# Altium schematic symbol library kmilo17pet-Microchip_Flash.SchLib: 291 symbols (part 15 of 37)
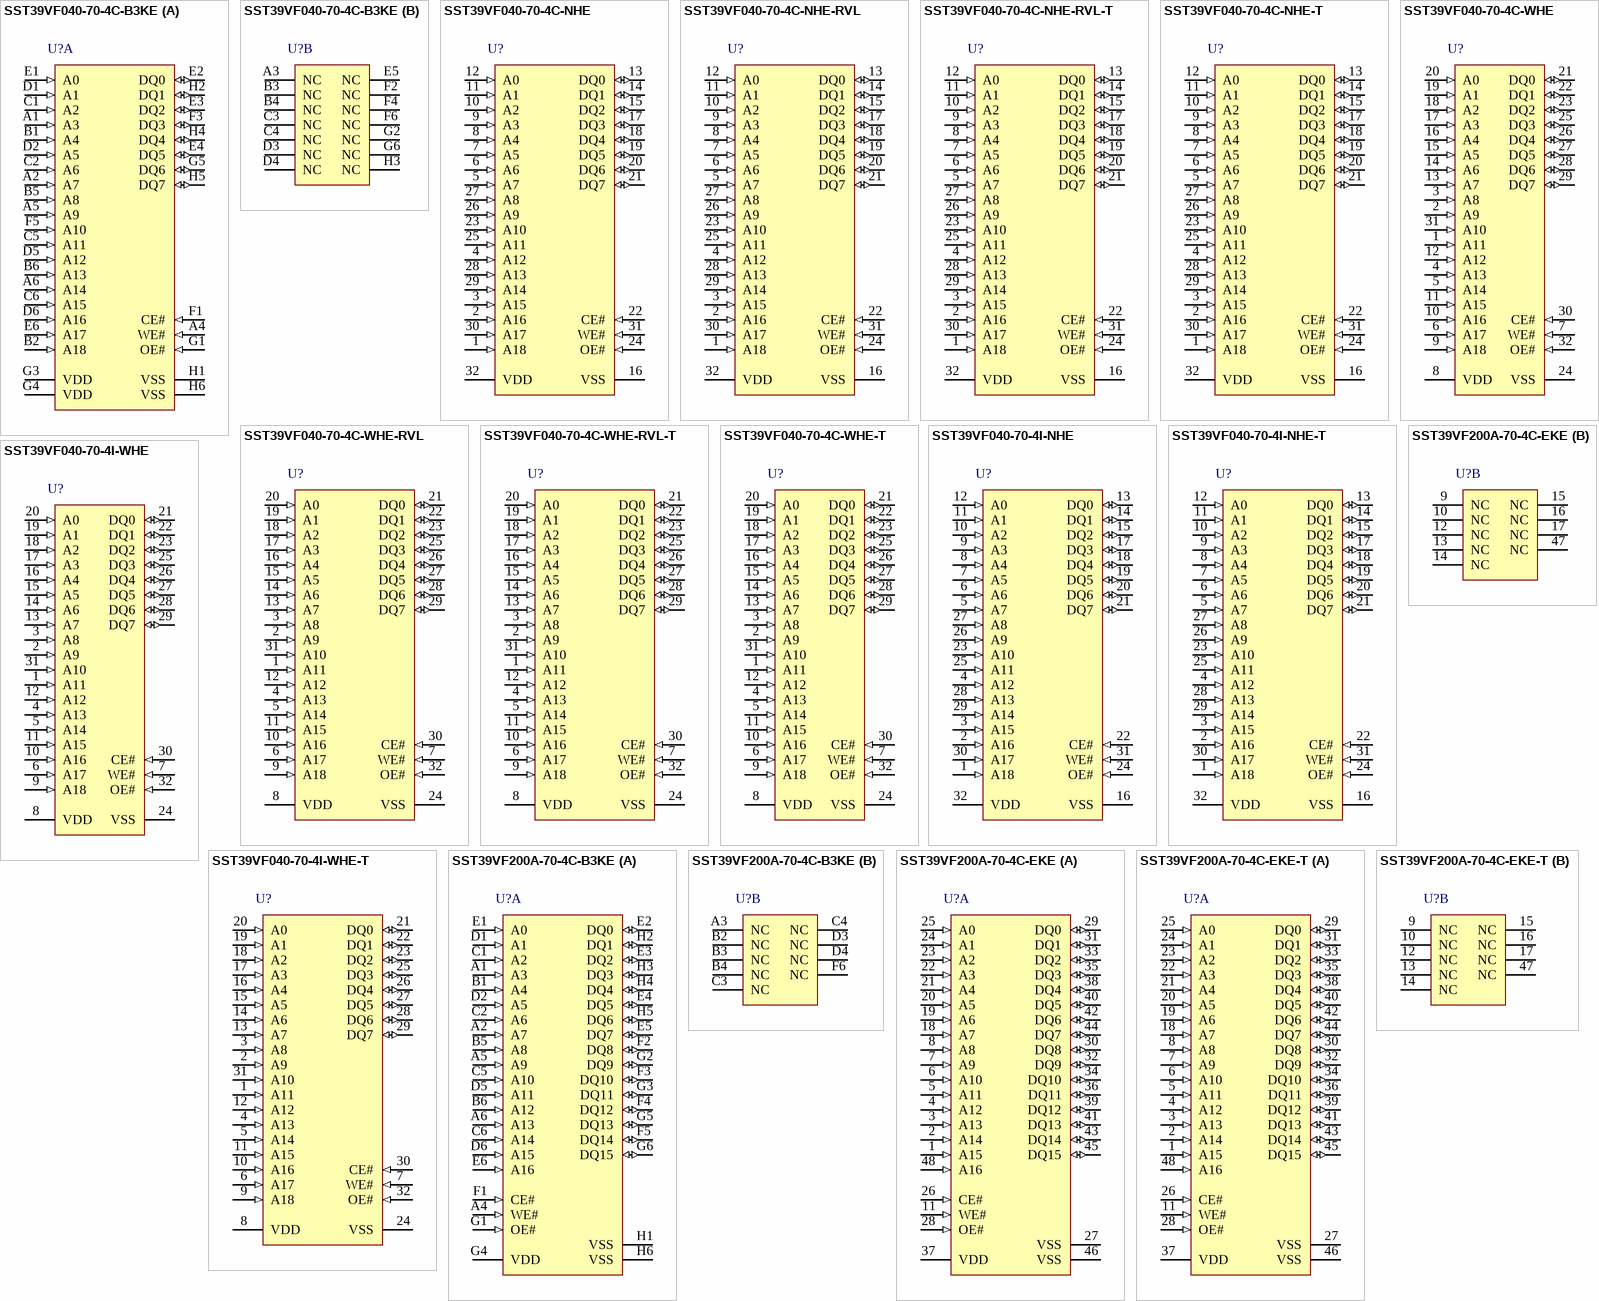
[diagram p29: symbols SST39VF040-70-4C-B3KE to SST39VF200A-70-4C-EKE-T]

## SST39VF040-70-4C-NHE-RVL-T
designator U?
4 Mbit (x8) Multi-Purpose Flash, 2.7 to 3.6 V, Commercial Temperature, 32-Pin PLCC (NH32), Tape and Reel; Manufacturer: Microchip; PartNumber: SST39VF040-70-4C-NHE-RVL-T; DatasheetVersion: Rev. B; PackageVersion: Rev. A, 07/2011; PackageReference: PLCC-NH32; PackageDescription: 32-lead Plastic Lead Chip Carrier, 11.43 x 13.97 mm Body, 1.27 mm Pitch; Family: SST Flash; Packing: Tape and Reel; VCC Range: 2.7 to 3.6 V; Mounting Technology: Surface Mount; Code_JEDEC: MS-016; ComponentLink1Description: Manufacturer URL; ComponentLink1URL: http://www.microchip.com/; ComponentLink2Description: Datasheet; ComponentLink2URL: http://ww1.microchip.com/downloads/en/DeviceDoc/20005023B.pdf; ComponentLink3Description: Package Specification; ComponentLink3URL: http://ww1.microchip.com/downloads/en/DeviceDoc/25022A.pdf
footprint MCHP-PLCC-NH32_N (PLCC, 32-Leads, Body 13.97x11.43mm, Pitch 1.27mm, IPC Medium Density)
footprint MCHP-PLCC-NH32_L (PLCC, 32-Leads, Body 13.97x11.43mm, Pitch 1.27mm, IPC High Density)
footprint MCHP-PLCC-NH32_M (PLCC, 32-Leads, Body 13.97x11.43mm, Pitch 1.27mm, IPC Low Density)
pins: 1 A18 (in) "To provide memory addresses. During Sector-Erase AMS-A12 address lines will select the sector. During Block-Erase AMS-A16 address lines will select the block.", 2 A16 (in) "To provide memory addresses. During Sector-Erase AMS-A12 address lines will select the sector. During Block-Erase AMS-A16 address lines will select the block.", 3 A15 (in) "To provide memory addresses. During Sector-Erase AMS-A12 address lines will select the sector. During Block-Erase AMS-A16 address lines will select the block.", 4 A12 (in) "To provide memory addresses. During Sector-Erase AMS-A12 address lines will select the sector. During Block-Erase AMS-A16 address lines will select the block.", 5 A7 (in) "To provide memory addresses. During Sector-Erase AMS-A12 address lines will select the sector. During Block-Erase AMS-A16 address lines will select the block.", 6 A6 (in) "To provide memory addresses. During Sector-Erase AMS-A12 address lines will select the sector. During Block-Erase AMS-A16 address lines will select the block.", 7 A5 (in) "To provide memory addresses. During Sector-Erase AMS-A12 address lines will select the sector. During Block-Erase AMS-A16 address lines will select the block.", 8 A4 (in) "To provide memory addresses. During Sector-Erase AMS-A12 address lines will select the sector. During Block-Erase AMS-A16 address lines will select the block.", 9 A3 (in) "To provide memory addresses. During Sector-Erase AMS-A12 address lines will select the sector. During Block-Erase AMS-A16 address lines will select the block.", 10 A2 (in) "To provide memory addresses. During Sector-Erase AMS-A12 address lines will select the sector. During Block-Erase AMS-A16 address lines will select the block.", 11 A1 (in) "To provide memory addresses. During Sector-Erase AMS-A12 address lines will select the sector. During Block-Erase AMS-A16 address lines will select the block.", 12 A0 (in) "To provide memory addresses. During Sector-Erase AMS-A12 address lines will select the sector. During Block-Erase AMS-A16 address lines will select the block.", 13 DQ0 (io) "To output data during Read cycles and receive input data during Write cycles. Data is internally latched during a Write cycle. The outputs are in tri-state when OE# or CE# is high.", 14 DQ1 (io) "To output data during Read cycles and receive input data during Write cycles. Data is internally latched during a Write cycle. The outputs are in tri-state when OE# or CE# is high.", 15 DQ2 (io) "To output data during Read cycles and receive input data during Write cycles. Data is internally latched during a Write cycle. The outputs are in tri-state when OE# or CE# is high.", 16 VSS (power) "Ground", 17 DQ3 (io) "To output data during Read cycles and receive input data during Write cycles. Data is internally latched during a Write cycle. The outputs are in tri-state when OE# or CE# is high.", 18 DQ4 (io) "To output data during Read cycles and receive input data during Write cycles. Data is internally latched during a Write cycle. The outputs are in tri-state when OE# or CE# is high.", 19 DQ5 (io) "To output data during Read cycles and receive input data during Write cycles. Data is internally latched during a Write cycle. The outputs are in tri-state when OE# or CE# is high.", 20 DQ6 (io) "To output data during Read cycles and receive input data during Write cycles. Data is internally latched during a Write cycle. The outputs are in tri-state when OE# or CE# is high.", 21 DQ7 (io) "To output data during Read cycles and receive input data during Write cycles. Data is internally latched during a Write cycle. The outputs are in tri-state when OE# or CE# is high.", 22 CE# (in) "To activate the device when CE# is low.", 23 A10 (in) "To provide memory addresses. During Sector-Erase AMS-A12 address lines will select the sector. During Block-Erase AMS-A16 address lines will select the block.", 24 OE# (in) "To gate the data output buffers.", 25 A11 (in) "To provide memory addresses. During Sector-Erase AMS-A12 address lines will select the sector. During Block-Erase AMS-A16 address lines will select the block.", 26 A9 (in) "To provide memory addresses. During Sector-Erase AMS-A12 address lines will select the sector. During Block-Erase AMS-A16 address lines will select the block.", 27 A8 (in) "To provide memory addresses. During Sector-Erase AMS-A12 address lines will select the sector. During Block-Erase AMS-A16 address lines will select the block.", 28 A13 (in) "To provide memory addresses. During Sector-Erase AMS-A12 address lines will select the sector. During Block-Erase AMS-A16 address lines will select the block.", 29 A14 (in) "To provide memory addresses. During Sector-Erase AMS-A12 address lines will select the sector. During Block-Erase AMS-A16 address lines will select the block.", 30 A17 (in) "To provide memory addresses. During Sector-Erase AMS-A12 address lines will select the sector. During Block-Erase AMS-A16 address lines will select the block.", 31 WE# (in) "To control the Write operations.", 32 VDD (power) "To provide power supply voltage: 2.7-3.6V for SST39VF010/020/040"

## SST39VF040-70-4C-NHE-T
designator U?
4 Mbit Multi-Purpose Flash, 2.7 to 3.6 V, 1 kHz, 0 to 70 degC, 32-pin PLCC (NH32), Tape and Reel; Manufacturer: Microchip; PartNumber: SST39VF040-70-4C-NHE-T; DatasheetVersion: Rev. A; PackageVersion: Rev. A; PackageReference: PLCC-NH32; PackageDescription: 32-lead Plastic Lead Chip Carrier, 11.43 x 13.97 mm Body, 1.27 mm Pitch; Supplier 1: Digi-Key; Supplier Part Number 1: SST39VF040-70-4C-NHE-T-ND; Mounting Technology: Surface Mount; Code_JEDEC: MS-016; ComponentLink1Description: Manufacturer URL; ComponentLink1URL: http://www.microchip.com; ComponentLink2Description: Datasheet; ComponentLink2URL: http://ww1.microchip.com/downloads/en/DeviceDoc/25023A.pdf; ComponentLink3Description: Package Specification; ComponentLink3URL: http://ww1.microchip.com/downloads/en/DeviceDoc/25022A.pdf; ComponentLink4Description: Product URL; ComponentLink4URL: http://www.microchip.com/SST39VF040
footprint MCHP-PLCC-NH32_N (PLCC, 32-Leads, Body 13.97x11.43mm, Pitch 1.27mm, IPC Medium Density)
footprint MCHP-PLCC-NH32_L (PLCC, 32-Leads, Body 13.97x11.43mm, Pitch 1.27mm, IPC High Density)
footprint MCHP-PLCC-NH32_M (PLCC, 32-Leads, Body 13.97x11.43mm, Pitch 1.27mm, IPC Low Density)
pins: 1 A18 (in) "To provide memory addresses. During Sector-Erase AMS-A12 address lines will select the sector. During Block-Erase AMS-A16 address lines will select the block.", 2 A16 (in) "To provide memory addresses. During Sector-Erase AMS-A12 address lines will select the sector. During Block-Erase AMS-A16 address lines will select the block.", 3 A15 (in) "To provide memory addresses. During Sector-Erase AMS-A12 address lines will select the sector. During Block-Erase AMS-A16 address lines will select the block.", 4 A12 (in) "To provide memory addresses. During Sector-Erase AMS-A12 address lines will select the sector. During Block-Erase AMS-A16 address lines will select the block.", 5 A7 (in) "To provide memory addresses. During Sector-Erase AMS-A12 address lines will select the sector. During Block-Erase AMS-A16 address lines will select the block.", 6 A6 (in) "To provide memory addresses. During Sector-Erase AMS-A12 address lines will select the sector. During Block-Erase AMS-A16 address lines will select the block.", 7 A5 (in) "To provide memory addresses. During Sector-Erase AMS-A12 address lines will select the sector. During Block-Erase AMS-A16 address lines will select the block.", 8 A4 (in) "To provide memory addresses. During Sector-Erase AMS-A12 address lines will select the sector. During Block-Erase AMS-A16 address lines will select the block.", 9 A3 (in) "To provide memory addresses. During Sector-Erase AMS-A12 address lines will select the sector. During Block-Erase AMS-A16 address lines will select the block.", 10 A2 (in) "To provide memory addresses. During Sector-Erase AMS-A12 address lines will select the sector. During Block-Erase AMS-A16 address lines will select the block.", 11 A1 (in) "To provide memory addresses. During Sector-Erase AMS-A12 address lines will select the sector. During Block-Erase AMS-A16 address lines will select the block.", 12 A0 (in) "To provide memory addresses. During Sector-Erase AMS-A12 address lines will select the sector. During Block-Erase AMS-A16 address lines will select the block.", 13 DQ0 (io) "To output data during Read cycles and receive input data during Write cycles. Data is internally latched during a Write cycle. The outputs are in tri-state when OE# or CE# is high.", 14 DQ1 (io) "To output data during Read cycles and receive input data during Write cycles. Data is internally latched during a Write cycle. The outputs are in tri-state when OE# or CE# is high.", 15 DQ2 (io) "To output data during Read cycles and receive input data during Write cycles. Data is internally latched during a Write cycle. The outputs are in tri-state when OE# or CE# is high.", 16 VSS (power) "Ground", 17 DQ3 (io) "To output data during Read cycles and receive input data during Write cycles. Data is internally latched during a Write cycle. The outputs are in tri-state when OE# or CE# is high.", 18 DQ4 (io) "To output data during Read cycles and receive input data during Write cycles. Data is internally latched during a Write cycle. The outputs are in tri-state when OE# or CE# is high.", 19 DQ5 (io) "To output data during Read cycles and receive input data during Write cycles. Data is internally latched during a Write cycle. The outputs are in tri-state when OE# or CE# is high.", 20 DQ6 (io) "To output data during Read cycles and receive input data during Write cycles. Data is internally latched during a Write cycle. The outputs are in tri-state when OE# or CE# is high.", 21 DQ7 (io) "To output data during Read cycles and receive input data during Write cycles. Data is internally latched during a Write cycle. The outputs are in tri-state when OE# or CE# is high.", 22 CE# (in) "To activate the device when CE# is low.", 23 A10 (in) "To provide memory addresses. During Sector-Erase AMS-A12 address lines will select the sector. During Block-Erase AMS-A16 address lines will select the block.", 24 OE# (in) "To gate the data output buffers.", 25 A11 (in) "To provide memory addresses. During Sector-Erase AMS-A12 address lines will select the sector. During Block-Erase AMS-A16 address lines will select the block.", 26 A9 (in) "To provide memory addresses. During Sector-Erase AMS-A12 address lines will select the sector. During Block-Erase AMS-A16 address lines will select the block.", 27 A8 (in) "To provide memory addresses. During Sector-Erase AMS-A12 address lines will select the sector. During Block-Erase AMS-A16 address lines will select the block.", 28 A13 (in) "To provide memory addresses. During Sector-Erase AMS-A12 address lines will select the sector. During Block-Erase AMS-A16 address lines will select the block.", 29 A14 (in) "To provide memory addresses. During Sector-Erase AMS-A12 address lines will select the sector. During Block-Erase AMS-A16 address lines will select the block.", 30 A17 (in) "To provide memory addresses. During Sector-Erase AMS-A12 address lines will select the sector. During Block-Erase AMS-A16 address lines will select the block.", 31 WE# (in) "To control the Write operations.", 32 VDD (power) "To provide power supply voltage: 2.7-3.6V for SST39VF010/020/040"

## SST39VF040-70-4C-WHE
designator U?
4 Mbit Multi-Purpose Flash, 2.7 to 3.6 V, 1 kHz, 0 to 70 degC, 32-pin TSOP (WH32), Tray; Manufacturer: Microchip; PartNumber: SST39VF040-70-4C-WHE; DatasheetVersion: Rev. A; PackageVersion: Rev. A; PackageReference: TSOP-WH32; PackageDescription: 32-Lead Thin Small Outline Package, 12.4 x 8 mm Body, 0.5 mm Pitch; Supplier 1: Digi-Key; Supplier Part Number 1: SST39VF040-70-4C-WHE-ND; Mounting Technology: Surface Mount; Code_JEDEC: MO-142; ComponentLink1Description: Manufacturer URL; ComponentLink1URL: http://www.microchip.com; ComponentLink2Description: Datasheet; ComponentLink2URL: http://ww1.microchip.com/downloads/en/DeviceDoc/25023A.pdf; ComponentLink3Description: Package Specification; ComponentLink3URL: http://ww1.microchip.com/downloads/en/DeviceDoc/25022A.pdf; ComponentLink4Description: Product URL; ComponentLink4URL: http://www.microchip.com/SST39VF040
footprint MCHP-TSOP-WH32_N (SOP, 32-Leads, Body 12.4x8mm, Pitch 0.5mm, IPC Medium Density)
footprint MCHP-TSOP-WH32_L (SOP, 32-Leads, Body 12.4x8mm, Pitch 0.5mm, IPC High Density)
footprint MCHP-TSOP-WH32_M (SOP, 32-Leads, Body 12.4x8mm, Pitch 0.5mm, IPC Low Density)
pins: 1 A11 (in) "To provide memory addresses. During Sector-Erase AMS-A12 address lines will select the sector.", 2 A9 (in) "To provide memory addresses. During Sector-Erase AMS-A12 address lines will select the sector.", 3 A8 (in) "To provide memory addresses. During Sector-Erase AMS-A12 address lines will select the sector.", 4 A13 (in) "To provide memory addresses. During Sector-Erase AMS-A12 address lines will select the sector.", 5 A14 (in) "To provide memory addresses. During Sector-Erase AMS-A12 address lines will select the sector.", 6 A17 (in) "To provide memory addresses. During Sector-Erase AMS-A12 address lines will select the sector.", 7 WE# (in) "To control the Write operations.", 8 VDD (power) "To provide positive power supply", 9 A18 (in) "To provide memory addresses. During Sector-Erase AMS-A12 address lines will select the sector.", 10 A16 (in) "To provide memory addresses. During Sector-Erase AMS-A12 address lines will select the sector.", 11 A15 (in) "To provide memory addresses. During Sector-Erase AMS-A12 address lines will select the sector.", 12 A12 (in) "To provide memory addresses. During Sector-Erase AMS-A12 address lines will select the sector.", 13 A7 (in) "To provide memory addresses. During Sector-Erase AMS-A12 address lines will select the sector.", 14 A6 (in) "To provide memory addresses. During Sector-Erase AMS-A12 address lines will select the sector.", 15 A5 (in) "To provide memory addresses. During Sector-Erase AMS-A12 address lines will select the sector.", 16 A4 (in) "To provide memory addresses. During Sector-Erase AMS-A12 address lines will select the sector.", 17 A3 (in) "To provide memory addresses. During Sector-Erase AMS-A12 address lines will select the sector.", 18 A2 (in) "To provide memory addresses. During Sector-Erase AMS-A12 address lines will select the sector.", 19 A1 (in) "To provide memory addresses. During Sector-Erase AMS-A12 address lines will select the sector.", 20 A0 (in) "To provide memory addresses. During Sector-Erase AMS-A12 address lines will select the sector.", 21 DQ0 (io) "To output data during Read cycles and receive input data during Write cycles. Data is internally latched during a Write cycle. The outputs are in tri-state when OE# or CE# is high.", 22 DQ1 (io) "To output data during Read cycles and receive input data during Write cycles. Data is internally latched during a Write cycle. The outputs are in tri-state when OE# or CE# is high.", 23 DQ2 (io) "To output data during Read cycles and receive input data during Write cycles. Data is internally latched during a Write cycle. The outputs are in tri-state when OE# or CE# is high.", 24 VSS (power) "Ground", 25 DQ3 (io) "To output data during Read cycles and receive input data during Write cycles. Data is internally latched during a Write cycle. The outputs are in tri-state when OE# or CE# is high.", 26 DQ4 (io) "To output data during Read cycles and receive input data during Write cycles. Data is internally latched during a Write cycle. The outputs are in tri-state when OE# or CE# is high.", 27 DQ5 (io) "To output data during Read cycles and receive input data during Write cycles. Data is internally latched during a Write cycle. The outputs are in tri-state when OE# or CE# is high.", 28 DQ6 (io) "To output data during Read cycles and receive input data during Write cycles. Data is internally latched during a Write cycle. The outputs are in tri-state when OE# or CE# is high.", 29 DQ7 (io) "To output data during Read cycles and receive input data during Write cycles. Data is internally latched during a Write cycle. The outputs are in tri-state when OE# or CE# is high.", 30 CE# (in) "To activate the device when CE# is low.", 31 A10 (in) "To provide memory addresses. During Sector-Erase AMS-A12 address lines will select the sector.", 32 OE# (in) "To gate the data output buffers."

## SST39VF040-70-4C-WHE-RVL
designator U?
4 Mbit (x8) Multi-Purpose Flash, 2.7 to 3.6 V, Commercial Temperature, 32-Pin TSOP (WH32), Tray; Manufacturer: Microchip; PartNumber: SST39VF040-70-4C-WHE-RVL; DatasheetVersion: Rev. B; PackageVersion: Rev. A, 07/2011; PackageReference: TSOP-WH32; PackageDescription: 32-Lead Thin Small Outline Package, 12.4 x 8 mm Body, 0.5 mm Pitch; Family: SST Flash; Packing: Tray; VCC Range: 2.7 to 3.6 V; Mounting Technology: Surface Mount; Code_JEDEC: MO-142; ComponentLink1Description: Manufacturer URL; ComponentLink1URL: http://www.microchip.com/; ComponentLink2Description: Datasheet; ComponentLink2URL: http://ww1.microchip.com/downloads/en/DeviceDoc/20005023B.pdf; ComponentLink3Description: Package Specification; ComponentLink3URL: http://ww1.microchip.com/downloads/en/DeviceDoc/25022A.pdf
footprint MCHP-TSOP-WH32_N (SOP, 32-Leads, Body 12.4x8mm, Pitch 0.5mm, IPC Medium Density)
footprint MCHP-TSOP-WH32_L (SOP, 32-Leads, Body 12.4x8mm, Pitch 0.5mm, IPC High Density)
footprint MCHP-TSOP-WH32_M (SOP, 32-Leads, Body 12.4x8mm, Pitch 0.5mm, IPC Low Density)
pins: 1 A11 (in) "To provide memory addresses. During Sector-Erase AMS-A12 address lines will select the sector. During Block-Erase AMS-A16 address lines will select the block.", 2 A9 (in) "To provide memory addresses. During Sector-Erase AMS-A12 address lines will select the sector. During Block-Erase AMS-A16 address lines will select the block.", 3 A8 (in) "To provide memory addresses. During Sector-Erase AMS-A12 address lines will select the sector. During Block-Erase AMS-A16 address lines will select the block.", 4 A13 (in) "To provide memory addresses. During Sector-Erase AMS-A12 address lines will select the sector. During Block-Erase AMS-A16 address lines will select the block.", 5 A14 (in) "To provide memory addresses. During Sector-Erase AMS-A12 address lines will select the sector. During Block-Erase AMS-A16 address lines will select the block.", 6 A17 (in) "To provide memory addresses. During Sector-Erase AMS-A12 address lines will select the sector. During Block-Erase AMS-A16 address lines will select the block.", 7 WE# (in) "To control the Write operations.", 8 VDD (power) "To provide power supply voltage: 2.7-3.6V for SST39VF010/020/040", 9 A18 (in) "To provide memory addresses. During Sector-Erase AMS-A12 address lines will select the sector. During Block-Erase AMS-A16 address lines will select the block.", 10 A16 (in) "To provide memory addresses. During Sector-Erase AMS-A12 address lines will select the sector. During Block-Erase AMS-A16 address lines will select the block.", 11 A15 (in) "To provide memory addresses. During Sector-Erase AMS-A12 address lines will select the sector. During Block-Erase AMS-A16 address lines will select the block.", 12 A12 (in) "To provide memory addresses. During Sector-Erase AMS-A12 address lines will select the sector. During Block-Erase AMS-A16 address lines will select the block.", 13 A7 (in) "To provide memory addresses. During Sector-Erase AMS-A12 address lines will select the sector. During Block-Erase AMS-A16 address lines will select the block.", 14 A6 (in) "To provide memory addresses. During Sector-Erase AMS-A12 address lines will select the sector. During Block-Erase AMS-A16 address lines will select the block.", 15 A5 (in) "To provide memory addresses. During Sector-Erase AMS-A12 address lines will select the sector. During Block-Erase AMS-A16 address lines will select the block.", 16 A4 (in) "To provide memory addresses. During Sector-Erase AMS-A12 address lines will select the sector. During Block-Erase AMS-A16 address lines will select the block.", 17 A3 (in) "To provide memory addresses. During Sector-Erase AMS-A12 address lines will select the sector. During Block-Erase AMS-A16 address lines will select the block.", 18 A2 (in) "To provide memory addresses. During Sector-Erase AMS-A12 address lines will select the sector. During Block-Erase AMS-A16 address lines will select the block.", 19 A1 (in) "To provide memory addresses. During Sector-Erase AMS-A12 address lines will select the sector. During Block-Erase AMS-A16 address lines will select the block.", 20 A0 (in) "To provide memory addresses. During Sector-Erase AMS-A12 address lines will select the sector. During Block-Erase AMS-A16 address lines will select the block.", 21 DQ0 (io) "To output data during Read cycles and receive input data during Write cycles. Data is internally latched during a Write cycle. The outputs are in tri-state when OE# or CE# is high.", 22 DQ1 (io) "To output data during Read cycles and receive input data during Write cycles. Data is internally latched during a Write cycle. The outputs are in tri-state when OE# or CE# is high.", 23 DQ2 (io) "To output data during Read cycles and receive input data during Write cycles. Data is internally latched during a Write cycle. The outputs are in tri-state when OE# or CE# is high.", 24 VSS (power) "Ground", 25 DQ3 (io) "To output data during Read cycles and receive input data during Write cycles. Data is internally latched during a Write cycle. The outputs are in tri-state when OE# or CE# is high.", 26 DQ4 (io) "To output data during Read cycles and receive input data during Write cycles. Data is internally latched during a Write cycle. The outputs are in tri-state when OE# or CE# is high.", 27 DQ5 (io) "To output data during Read cycles and receive input data during Write cycles. Data is internally latched during a Write cycle. The outputs are in tri-state when OE# or CE# is high.", 28 DQ6 (io) "To output data during Read cycles and receive input data during Write cycles. Data is internally latched during a Write cycle. The outputs are in tri-state when OE# or CE# is high.", 29 DQ7 (io) "To output data during Read cycles and receive input data during Write cycles. Data is internally latched during a Write cycle. The outputs are in tri-state when OE# or CE# is high.", 30 CE# (in) "To activate the device when CE# is low.", 31 A10 (in) "To provide memory addresses. During Sector-Erase AMS-A12 address lines will select the sector. During Block-Erase AMS-A16 address lines will select the block.", 32 OE# (in) "To gate the data output buffers."

## SST39VF040-70-4C-WHE-RVL-T
designator U?
4 Mbit (x8) Multi-Purpose Flash, 2.7 to 3.6 V, Commercial Temperature, 32-Pin TSOP (WH32), Tape and Reel; Manufacturer: Microchip; PartNumber: SST39VF040-70-4C-WHE-RVL-T; DatasheetVersion: Rev. B; PackageVersion: Rev. A, 07/2011; PackageReference: TSOP-WH32; PackageDescription: 32-Lead Thin Small Outline Package, 12.4 x 8 mm Body, 0.5 mm Pitch; Family: SST Flash; Packing: Tape and Reel; VCC Range: 2.7 to 3.6 V; Mounting Technology: Surface Mount; Code_JEDEC: MO-142; ComponentLink1Description: Manufacturer URL; ComponentLink1URL: http://www.microchip.com/; ComponentLink2Description: Datasheet; ComponentLink2URL: http://ww1.microchip.com/downloads/en/DeviceDoc/20005023B.pdf; ComponentLink3Description: Package Specification; ComponentLink3URL: http://ww1.microchip.com/downloads/en/DeviceDoc/25022A.pdf
footprint MCHP-TSOP-WH32_N (SOP, 32-Leads, Body 12.4x8mm, Pitch 0.5mm, IPC Medium Density)
footprint MCHP-TSOP-WH32_L (SOP, 32-Leads, Body 12.4x8mm, Pitch 0.5mm, IPC High Density)
footprint MCHP-TSOP-WH32_M (SOP, 32-Leads, Body 12.4x8mm, Pitch 0.5mm, IPC Low Density)
pins: 1 A11 (in) "To provide memory addresses. During Sector-Erase AMS-A12 address lines will select the sector. During Block-Erase AMS-A16 address lines will select the block.", 2 A9 (in) "To provide memory addresses. During Sector-Erase AMS-A12 address lines will select the sector. During Block-Erase AMS-A16 address lines will select the block.", 3 A8 (in) "To provide memory addresses. During Sector-Erase AMS-A12 address lines will select the sector. During Block-Erase AMS-A16 address lines will select the block.", 4 A13 (in) "To provide memory addresses. During Sector-Erase AMS-A12 address lines will select the sector. During Block-Erase AMS-A16 address lines will select the block.", 5 A14 (in) "To provide memory addresses. During Sector-Erase AMS-A12 address lines will select the sector. During Block-Erase AMS-A16 address lines will select the block.", 6 A17 (in) "To provide memory addresses. During Sector-Erase AMS-A12 address lines will select the sector. During Block-Erase AMS-A16 address lines will select the block.", 7 WE# (in) "To control the Write operations.", 8 VDD (power) "To provide power supply voltage: 2.7-3.6V for SST39VF010/020/040", 9 A18 (in) "To provide memory addresses. During Sector-Erase AMS-A12 address lines will select the sector. During Block-Erase AMS-A16 address lines will select the block.", 10 A16 (in) "To provide memory addresses. During Sector-Erase AMS-A12 address lines will select the sector. During Block-Erase AMS-A16 address lines will select the block.", 11 A15 (in) "To provide memory addresses. During Sector-Erase AMS-A12 address lines will select the sector. During Block-Erase AMS-A16 address lines will select the block.", 12 A12 (in) "To provide memory addresses. During Sector-Erase AMS-A12 address lines will select the sector. During Block-Erase AMS-A16 address lines will select the block.", 13 A7 (in) "To provide memory addresses. During Sector-Erase AMS-A12 address lines will select the sector. During Block-Erase AMS-A16 address lines will select the block.", 14 A6 (in) "To provide memory addresses. During Sector-Erase AMS-A12 address lines will select the sector. During Block-Erase AMS-A16 address lines will select the block.", 15 A5 (in) "To provide memory addresses. During Sector-Erase AMS-A12 address lines will select the sector. During Block-Erase AMS-A16 address lines will select the block.", 16 A4 (in) "To provide memory addresses. During Sector-Erase AMS-A12 address lines will select the sector. During Block-Erase AMS-A16 address lines will select the block.", 17 A3 (in) "To provide memory addresses. During Sector-Erase AMS-A12 address lines will select the sector. During Block-Erase AMS-A16 address lines will select the block.", 18 A2 (in) "To provide memory addresses. During Sector-Erase AMS-A12 address lines will select the sector. During Block-Erase AMS-A16 address lines will select the block.", 19 A1 (in) "To provide memory addresses. During Sector-Erase AMS-A12 address lines will select the sector. During Block-Erase AMS-A16 address lines will select the block.", 20 A0 (in) "To provide memory addresses. During Sector-Erase AMS-A12 address lines will select the sector. During Block-Erase AMS-A16 address lines will select the block.", 21 DQ0 (io) "To output data during Read cycles and receive input data during Write cycles. Data is internally latched during a Write cycle. The outputs are in tri-state when OE# or CE# is high.", 22 DQ1 (io) "To output data during Read cycles and receive input data during Write cycles. Data is internally latched during a Write cycle. The outputs are in tri-state when OE# or CE# is high.", 23 DQ2 (io) "To output data during Read cycles and receive input data during Write cycles. Data is internally latched during a Write cycle. The outputs are in tri-state when OE# or CE# is high.", 24 VSS (power) "Ground", 25 DQ3 (io) "To output data during Read cycles and receive input data during Write cycles. Data is internally latched during a Write cycle. The outputs are in tri-state when OE# or CE# is high.", 26 DQ4 (io) "To output data during Read cycles and receive input data during Write cycles. Data is internally latched during a Write cycle. The outputs are in tri-state when OE# or CE# is high.", 27 DQ5 (io) "To output data during Read cycles and receive input data during Write cycles. Data is internally latched during a Write cycle. The outputs are in tri-state when OE# or CE# is high.", 28 DQ6 (io) "To output data during Read cycles and receive input data during Write cycles. Data is internally latched during a Write cycle. The outputs are in tri-state when OE# or CE# is high.", 29 DQ7 (io) "To output data during Read cycles and receive input data during Write cycles. Data is internally latched during a Write cycle. The outputs are in tri-state when OE# or CE# is high.", 30 CE# (in) "To activate the device when CE# is low.", 31 A10 (in) "To provide memory addresses. During Sector-Erase AMS-A12 address lines will select the sector. During Block-Erase AMS-A16 address lines will select the block.", 32 OE# (in) "To gate the data output buffers."

## SST39VF040-70-4C-WHE-T
designator U?
4 Mbit Multi-Purpose Flash, 2.7 to 3.6 V, 1 kHz, 0 to 70 degC, 32-pin TSOP (WH32), Tape and Reel; Manufacturer: Microchip; PartNumber: SST39VF040-70-4C-WHE-T; DatasheetVersion: Rev. A; PackageVersion: Rev. A; PackageReference: TSOP-WH32; PackageDescription: 32-Lead Thin Small Outline Package, 12.4 x 8 mm Body, 0.5 mm Pitch; Supplier 1: Digi-Key; Supplier Part Number 1: SST39VF040-70-4C-WHE-T-ND; Mounting Technology: Surface Mount; Code_JEDEC: MO-142; ComponentLink1Description: Manufacturer URL; ComponentLink1URL: http://www.microchip.com; ComponentLink2Description: Datasheet; ComponentLink2URL: http://ww1.microchip.com/downloads/en/DeviceDoc/25023A.pdf; ComponentLink3Description: Package Specification; ComponentLink3URL: http://ww1.microchip.com/downloads/en/DeviceDoc/25022A.pdf; ComponentLink4Description: Product URL; ComponentLink4URL: http://www.microchip.com/SST39VF040
footprint MCHP-TSOP-WH32_N (SOP, 32-Leads, Body 12.4x8mm, Pitch 0.5mm, IPC Medium Density)
footprint MCHP-TSOP-WH32_L (SOP, 32-Leads, Body 12.4x8mm, Pitch 0.5mm, IPC High Density)
footprint MCHP-TSOP-WH32_M (SOP, 32-Leads, Body 12.4x8mm, Pitch 0.5mm, IPC Low Density)
pins: 1 A11 (in) "To provide memory addresses. During Sector-Erase AMS-A12 address lines will select the sector.", 2 A9 (in) "To provide memory addresses. During Sector-Erase AMS-A12 address lines will select the sector.", 3 A8 (in) "To provide memory addresses. During Sector-Erase AMS-A12 address lines will select the sector.", 4 A13 (in) "To provide memory addresses. During Sector-Erase AMS-A12 address lines will select the sector.", 5 A14 (in) "To provide memory addresses. During Sector-Erase AMS-A12 address lines will select the sector.", 6 A17 (in) "To provide memory addresses. During Sector-Erase AMS-A12 address lines will select the sector.", 7 WE# (in) "To control the Write operations.", 8 VDD (power) "To provide positive power supply", 9 A18 (in) "To provide memory addresses. During Sector-Erase AMS-A12 address lines will select the sector.", 10 A16 (in) "To provide memory addresses. During Sector-Erase AMS-A12 address lines will select the sector.", 11 A15 (in) "To provide memory addresses. During Sector-Erase AMS-A12 address lines will select the sector.", 12 A12 (in) "To provide memory addresses. During Sector-Erase AMS-A12 address lines will select the sector.", 13 A7 (in) "To provide memory addresses. During Sector-Erase AMS-A12 address lines will select the sector.", 14 A6 (in) "To provide memory addresses. During Sector-Erase AMS-A12 address lines will select the sector.", 15 A5 (in) "To provide memory addresses. During Sector-Erase AMS-A12 address lines will select the sector.", 16 A4 (in) "To provide memory addresses. During Sector-Erase AMS-A12 address lines will select the sector.", 17 A3 (in) "To provide memory addresses. During Sector-Erase AMS-A12 address lines will select the sector.", 18 A2 (in) "To provide memory addresses. During Sector-Erase AMS-A12 address lines will select the sector.", 19 A1 (in) "To provide memory addresses. During Sector-Erase AMS-A12 address lines will select the sector.", 20 A0 (in) "To provide memory addresses. During Sector-Erase AMS-A12 address lines will select the sector.", 21 DQ0 (io) "To output data during Read cycles and receive input data during Write cycles. Data is internally latched during a Write cycle. The outputs are in tri-state when OE# or CE# is high.", 22 DQ1 (io) "To output data during Read cycles and receive input data during Write cycles. Data is internally latched during a Write cycle. The outputs are in tri-state when OE# or CE# is high.", 23 DQ2 (io) "To output data during Read cycles and receive input data during Write cycles. Data is internally latched during a Write cycle. The outputs are in tri-state when OE# or CE# is high.", 24 VSS (power) "Ground", 25 DQ3 (io) "To output data during Read cycles and receive input data during Write cycles. Data is internally latched during a Write cycle. The outputs are in tri-state when OE# or CE# is high.", 26 DQ4 (io) "To output data during Read cycles and receive input data during Write cycles. Data is internally latched during a Write cycle. The outputs are in tri-state when OE# or CE# is high.", 27 DQ5 (io) "To output data during Read cycles and receive input data during Write cycles. Data is internally latched during a Write cycle. The outputs are in tri-state when OE# or CE# is high.", 28 DQ6 (io) "To output data during Read cycles and receive input data during Write cycles. Data is internally latched during a Write cycle. The outputs are in tri-state when OE# or CE# is high.", 29 DQ7 (io) "To output data during Read cycles and receive input data during Write cycles. Data is internally latched during a Write cycle. The outputs are in tri-state when OE# or CE# is high.", 30 CE# (in) "To activate the device when CE# is low.", 31 A10 (in) "To provide memory addresses. During Sector-Erase AMS-A12 address lines will select the sector.", 32 OE# (in) "To gate the data output buffers."

## SST39VF040-70-4I-NHE
designator U?
4 Mbit Multi-Purpose Flash, 2.7 to 3.6 V, 1 kHz, -40 to 85 degC, 32-pin PLCC (NH32), Tube; Manufacturer: Microchip; PartNumber: SST39VF040-70-4I-NHE; DatasheetVersion: Rev. A; PackageVersion: Rev. A; PackageReference: PLCC-NH32; PackageDescription: 32-lead Plastic Lead Chip Carrier, 11.43 x 13.97 mm Body, 1.27 mm Pitch; Supplier 1: Digi-Key; Supplier Part Number 1: SST39VF040-70-4I-NHE-ND; Mounting Technology: Surface Mount; Code_JEDEC: MS-016; ComponentLink1Description: Manufacturer URL; ComponentLink1URL: http://www.microchip.com; ComponentLink2Description: Datasheet; ComponentLink2URL: http://ww1.microchip.com/downloads/en/DeviceDoc/25023A.pdf; ComponentLink3Description: Package Specification; ComponentLink3URL: http://ww1.microchip.com/downloads/en/DeviceDoc/25022A.pdf; ComponentLink4Description: Product URL; ComponentLink4URL: http://www.microchip.com/SST39VF040
footprint MCHP-PLCC-NH32_N (PLCC, 32-Leads, Body 13.97x11.43mm, Pitch 1.27mm, IPC Medium Density)
footprint MCHP-PLCC-NH32_L (PLCC, 32-Leads, Body 13.97x11.43mm, Pitch 1.27mm, IPC High Density)
footprint MCHP-PLCC-NH32_M (PLCC, 32-Leads, Body 13.97x11.43mm, Pitch 1.27mm, IPC Low Density)
pins: 1 A18 (in) "To provide memory addresses. During Sector-Erase AMS-A12 address lines will select the sector. During Block-Erase AMS-A16 address lines will select the block.", 2 A16 (in) "To provide memory addresses. During Sector-Erase AMS-A12 address lines will select the sector. During Block-Erase AMS-A16 address lines will select the block.", 3 A15 (in) "To provide memory addresses. During Sector-Erase AMS-A12 address lines will select the sector. During Block-Erase AMS-A16 address lines will select the block.", 4 A12 (in) "To provide memory addresses. During Sector-Erase AMS-A12 address lines will select the sector. During Block-Erase AMS-A16 address lines will select the block.", 5 A7 (in) "To provide memory addresses. During Sector-Erase AMS-A12 address lines will select the sector. During Block-Erase AMS-A16 address lines will select the block.", 6 A6 (in) "To provide memory addresses. During Sector-Erase AMS-A12 address lines will select the sector. During Block-Erase AMS-A16 address lines will select the block.", 7 A5 (in) "To provide memory addresses. During Sector-Erase AMS-A12 address lines will select the sector. During Block-Erase AMS-A16 address lines will select the block.", 8 A4 (in) "To provide memory addresses. During Sector-Erase AMS-A12 address lines will select the sector. During Block-Erase AMS-A16 address lines will select the block.", 9 A3 (in) "To provide memory addresses. During Sector-Erase AMS-A12 address lines will select the sector. During Block-Erase AMS-A16 address lines will select the block.", 10 A2 (in) "To provide memory addresses. During Sector-Erase AMS-A12 address lines will select the sector. During Block-Erase AMS-A16 address lines will select the block.", 11 A1 (in) "To provide memory addresses. During Sector-Erase AMS-A12 address lines will select the sector. During Block-Erase AMS-A16 address lines will select the block.", 12 A0 (in) "To provide memory addresses. During Sector-Erase AMS-A12 address lines will select the sector. During Block-Erase AMS-A16 address lines will select the block.", 13 DQ0 (io) "To output data during Read cycles and receive input data during Write cycles. Data is internally latched during a Write cycle. The outputs are in tri-state when OE# or CE# is high.", 14 DQ1 (io) "To output data during Read cycles and receive input data during Write cycles. Data is internally latched during a Write cycle. The outputs are in tri-state when OE# or CE# is high.", 15 DQ2 (io) "To output data during Read cycles and receive input data during Write cycles. Data is internally latched during a Write cycle. The outputs are in tri-state when OE# or CE# is high.", 16 VSS (power) "Ground", 17 DQ3 (io) "To output data during Read cycles and receive input data during Write cycles. Data is internally latched during a Write cycle. The outputs are in tri-state when OE# or CE# is high.", 18 DQ4 (io) "To output data during Read cycles and receive input data during Write cycles. Data is internally latched during a Write cycle. The outputs are in tri-state when OE# or CE# is high.", 19 DQ5 (io) "To output data during Read cycles and receive input data during Write cycles. Data is internally latched during a Write cycle. The outputs are in tri-state when OE# or CE# is high.", 20 DQ6 (io) "To output data during Read cycles and receive input data during Write cycles. Data is internally latched during a Write cycle. The outputs are in tri-state when OE# or CE# is high.", 21 DQ7 (io) "To output data during Read cycles and receive input data during Write cycles. Data is internally latched during a Write cycle. The outputs are in tri-state when OE# or CE# is high.", 22 CE# (in) "To activate the device when CE# is low.", 23 A10 (in) "To provide memory addresses. During Sector-Erase AMS-A12 address lines will select the sector. During Block-Erase AMS-A16 address lines will select the block.", 24 OE# (in) "To gate the data output buffers.", 25 A11 (in) "To provide memory addresses. During Sector-Erase AMS-A12 address lines will select the sector. During Block-Erase AMS-A16 address lines will select the block.", 26 A9 (in) "To provide memory addresses. During Sector-Erase AMS-A12 address lines will select the sector. During Block-Erase AMS-A16 address lines will select the block.", 27 A8 (in) "To provide memory addresses. During Sector-Erase AMS-A12 address lines will select the sector. During Block-Erase AMS-A16 address lines will select the block.", 28 A13 (in) "To provide memory addresses. During Sector-Erase AMS-A12 address lines will select the sector. During Block-Erase AMS-A16 address lines will select the block.", 29 A14 (in) "To provide memory addresses. During Sector-Erase AMS-A12 address lines will select the sector. During Block-Erase AMS-A16 address lines will select the block.", 30 A17 (in) "To provide memory addresses. During Sector-Erase AMS-A12 address lines will select the sector. During Block-Erase AMS-A16 address lines will select the block.", 31 WE# (in) "To control the Write operations.", 32 VDD (power) "To provide power supply voltage: 2.7-3.6V for SST39VF010/020/040"

## SST39VF040-70-4I-NHE-T
designator U?
4 Mbit Multi-Purpose Flash, 2.7 to 3.6 V, 1 kHz, -40 to 85 degC, 32-pin PLCC (NH32), Tape and Reel; Manufacturer: Microchip; PartNumber: SST39VF040-70-4I-NHE-T; DatasheetVersion: Rev. A; PackageVersion: Rev. A; PackageReference: PLCC-NH32; PackageDescription: 32-lead Plastic Lead Chip Carrier, 11.43 x 13.97 mm Body, 1.27 mm Pitch; Supplier 1: Digi-Key; Supplier Part Number 1: SST39VF040-70-4I-NHE-T-ND; Mounting Technology: Surface Mount; Code_JEDEC: MS-016; ComponentLink1Description: Manufacturer URL; ComponentLink1URL: http://www.microchip.com; ComponentLink2Description: Datasheet; ComponentLink2URL: http://ww1.microchip.com/downloads/en/DeviceDoc/25023A.pdf; ComponentLink3Description: Package Specification; ComponentLink3URL: http://ww1.microchip.com/downloads/en/DeviceDoc/25022A.pdf; ComponentLink4Description: Product URL; ComponentLink4URL: http://www.microchip.com/SST39VF040
footprint MCHP-PLCC-NH32_N (PLCC, 32-Leads, Body 13.97x11.43mm, Pitch 1.27mm, IPC Medium Density)
footprint MCHP-PLCC-NH32_L (PLCC, 32-Leads, Body 13.97x11.43mm, Pitch 1.27mm, IPC High Density)
footprint MCHP-PLCC-NH32_M (PLCC, 32-Leads, Body 13.97x11.43mm, Pitch 1.27mm, IPC Low Density)
pins: 1 A18 (in) "To provide memory addresses. During Sector-Erase AMS-A12 address lines will select the sector. During Block-Erase AMS-A16 address lines will select the block.", 2 A16 (in) "To provide memory addresses. During Sector-Erase AMS-A12 address lines will select the sector. During Block-Erase AMS-A16 address lines will select the block.", 3 A15 (in) "To provide memory addresses. During Sector-Erase AMS-A12 address lines will select the sector. During Block-Erase AMS-A16 address lines will select the block.", 4 A12 (in) "To provide memory addresses. During Sector-Erase AMS-A12 address lines will select the sector. During Block-Erase AMS-A16 address lines will select the block.", 5 A7 (in) "To provide memory addresses. During Sector-Erase AMS-A12 address lines will select the sector. During Block-Erase AMS-A16 address lines will select the block.", 6 A6 (in) "To provide memory addresses. During Sector-Erase AMS-A12 address lines will select the sector. During Block-Erase AMS-A16 address lines will select the block.", 7 A5 (in) "To provide memory addresses. During Sector-Erase AMS-A12 address lines will select the sector. During Block-Erase AMS-A16 address lines will select the block.", 8 A4 (in) "To provide memory addresses. During Sector-Erase AMS-A12 address lines will select the sector. During Block-Erase AMS-A16 address lines will select the block.", 9 A3 (in) "To provide memory addresses. During Sector-Erase AMS-A12 address lines will select the sector. During Block-Erase AMS-A16 address lines will select the block.", 10 A2 (in) "To provide memory addresses. During Sector-Erase AMS-A12 address lines will select the sector. During Block-Erase AMS-A16 address lines will select the block.", 11 A1 (in) "To provide memory addresses. During Sector-Erase AMS-A12 address lines will select the sector. During Block-Erase AMS-A16 address lines will select the block.", 12 A0 (in) "To provide memory addresses. During Sector-Erase AMS-A12 address lines will select the sector. During Block-Erase AMS-A16 address lines will select the block.", 13 DQ0 (io) "To output data during Read cycles and receive input data during Write cycles. Data is internally latched during a Write cycle. The outputs are in tri-state when OE# or CE# is high.", 14 DQ1 (io) "To output data during Read cycles and receive input data during Write cycles. Data is internally latched during a Write cycle. The outputs are in tri-state when OE# or CE# is high.", 15 DQ2 (io) "To output data during Read cycles and receive input data during Write cycles. Data is internally latched during a Write cycle. The outputs are in tri-state when OE# or CE# is high.", 16 VSS (power) "Ground", 17 DQ3 (io) "To output data during Read cycles and receive input data during Write cycles. Data is internally latched during a Write cycle. The outputs are in tri-state when OE# or CE# is high.", 18 DQ4 (io) "To output data during Read cycles and receive input data during Write cycles. Data is internally latched during a Write cycle. The outputs are in tri-state when OE# or CE# is high.", 19 DQ5 (io) "To output data during Read cycles and receive input data during Write cycles. Data is internally latched during a Write cycle. The outputs are in tri-state when OE# or CE# is high.", 20 DQ6 (io) "To output data during Read cycles and receive input data during Write cycles. Data is internally latched during a Write cycle. The outputs are in tri-state when OE# or CE# is high.", 21 DQ7 (io) "To output data during Read cycles and receive input data during Write cycles. Data is internally latched during a Write cycle. The outputs are in tri-state when OE# or CE# is high.", 22 CE# (in) "To activate the device when CE# is low.", 23 A10 (in) "To provide memory addresses. During Sector-Erase AMS-A12 address lines will select the sector. During Block-Erase AMS-A16 address lines will select the block.", 24 OE# (in) "To gate the data output buffers.", 25 A11 (in) "To provide memory addresses. During Sector-Erase AMS-A12 address lines will select the sector. During Block-Erase AMS-A16 address lines will select the block.", 26 A9 (in) "To provide memory addresses. During Sector-Erase AMS-A12 address lines will select the sector. During Block-Erase AMS-A16 address lines will select the block.", 27 A8 (in) "To provide memory addresses. During Sector-Erase AMS-A12 address lines will select the sector. During Block-Erase AMS-A16 address lines will select the block.", 28 A13 (in) "To provide memory addresses. During Sector-Erase AMS-A12 address lines will select the sector. During Block-Erase AMS-A16 address lines will select the block.", 29 A14 (in) "To provide memory addresses. During Sector-Erase AMS-A12 address lines will select the sector. During Block-Erase AMS-A16 address lines will select the block.", 30 A17 (in) "To provide memory addresses. During Sector-Erase AMS-A12 address lines will select the sector. During Block-Erase AMS-A16 address lines will select the block.", 31 WE# (in) "To control the Write operations.", 32 VDD (power) "To provide power supply voltage: 2.7-3.6V for SST39VF010/020/040"